# Altium schematic symbol library ETQP4M4R7YFP.SchLib: 1 symbol
Pins are listed as number, name and electrical type; pins without a type are passive.

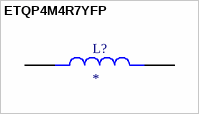
[diagram p0: symbol ETQP4M4R7YFP]

## ETQP4M4R7YFP
designator L?
Power Choke Shielded Wirewound 4.7uH 20% 100KHz Metal 4.8A 39.6mOhm DCR Automotive T/R; MF: Panasonic; MP: ETQP4M4R7YFP; Value: *; Price: None; Package: SMD-2 Panasonic; Check_prices: https://www.snapeda.com/parts/ETQP4M4R7YFP/Panasonic/view-part/1533841/?ref=eda; Availability: In Stock; SnapEDA_Link: https://www.snapeda.com/parts/ETQP4M4R7YFP/Panasonic/view-part/1533841/?ref=snap; Purchase-URL: https://pricing.snapeda.com/search/part/ETQP4M4R7YFP/?ref=eda
footprint IND_ETQP4M4R7YFP
pins: 1, 2